# Altium footprint library SL_Transducers.PcbLib: 2 footprints
Each footprint in its own frame and in the unit in brackets; x right, y up, seen from the top. Pads: shape width x height; smd on the part's side, far side on the other; paste and mask are expansions set on the pad; w line width, h text height; cw(c..) or ccw(c..) is an arc to the next point about the centre after c.
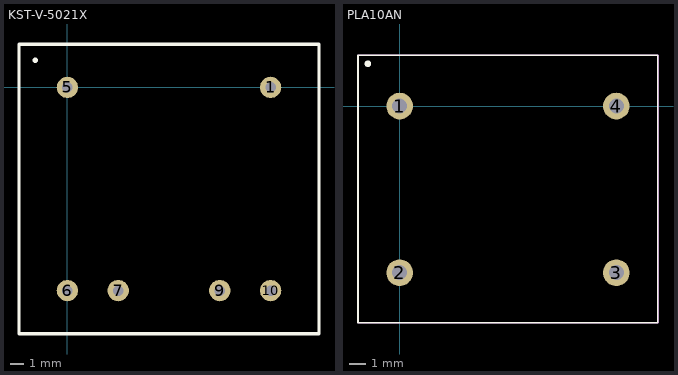
[diagram p0: the footprints below, top view; thin cyan lines are the x and y axes]

## KST-V-5021X [mm]
pads (6):
  round 1.6 hole 0.8: 1(15.24,0) 5(0,0) 6(0,-15.24) 7(3.81,-15.24) 9(11.43,-15.24) 10(15.24,-15.24)
Top Overlay:
  circle w0.2: c-2.413,2.032 r0.1
  lines w0.254: -3.63,-18.47 18.87,-18.47 18.87,3.23 -3.63,3.23 -3.63,-18.47
Mechanical 13:
  lines w0.1: -3.63,-18.47 -3.63,3.23 18.87,3.23 18.87,-18.47 -3.63,-18.47
Mechanical 15:
  lines w0.05: -3.63,-18.47 18.87,-18.47 18.87,3.23 -3.63,3.23 -3.63,-18.47
3D body "KST-V-50213.STEP": height 17.6, standoff -3.4, extent -3.63,-18.47 18.87,3.23

## PLA10AN [mm]
pads (4):
  round 1.6 hole 0.9: 1(0,0) 2(0,-10) 3(13,-10) 4(13,0)
Top Overlay:
  circle w0.2: c-1.905,2.54 r0.1
  lines w0.1: -2.5,-13 15.494,-13 15.494,3.048 -2.5,3.048 -2.5,-13
Mechanical 13:
  lines w0.1: -2.5,-13 -2.5,3.048 15.5,3.048 15.5,-13 -2.5,-13
Mechanical 15:
  lines w0.1: -2.5,-13 -2.5,3.048 15.5,3.048 15.5,-13 -2.5,-13
3D body "PLA10AN.STEP": height 17.5, standoff -4.5, extent -2.5,-13 15.5,3